# Altium footprint library gecko3-library.PcbLib: 40 footprints (part 3 of 3)
Each footprint in its own frame and in the unit in brackets; x right, y up, seen from the top. Pads: shape width x height; smd on the part's side, far side on the other; paste and mask are expansions set on the pad; w line width, h text height; cw(c..) or ccw(c..) is an arc to the next point about the centre after c.
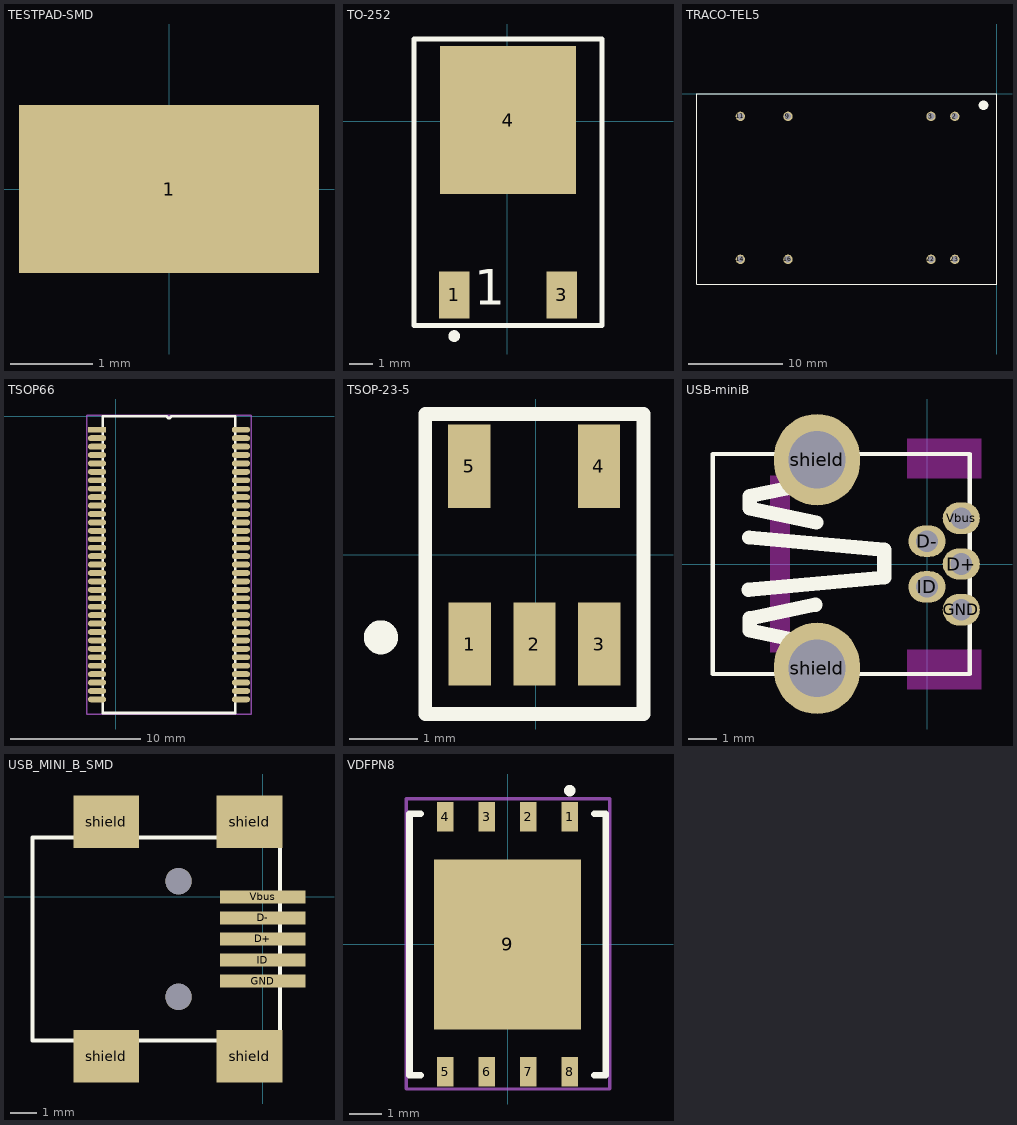
[diagram p2: the footprints below, top view; thin cyan lines are the x and y axes]

## TESTPAD-SMD [mm] "SMD Testpad"
height 2
pads (1):
  rect 3.65x2.05 smd: 1(0,0)

## TO-252 [mm]
height 2.3
pads (3):
  rect 1.3x2 smd: 1(-2.26,-7.4) 3(2.31,-7.4)
  rect 5.8x6.3 smd paste-0.5: 4(0.025,0.05)
Top Overlay:
  circle w0.25: c-2.265,-9.15 r0.125
  lines w0.2: -3.975,-8.7 4.025,-8.7 4.025,3.5 0,3.5 -3.975,3.5 -3.975,-8.7
  text "1" at -1.415,-7.825 h1.5

## TRACO-TEL5 [mm] "DC/DC Converter Serie TEL5 from Traco Power"
height 10.2
pads (8):
  round 1 hole 0.7 unplated: 2(-4.5,-2.4) 3(-7.04,-2.4) 9(-22.3,-2.4) 11(-27.375,-2.4) 14(-27.375,-17.65) 16(-22.3,-17.65) 22(-7.04,-17.65) 23(-4.5,-17.65)
Top Overlay:
  lines w0.1: -32,-20.3 -32,0 0,0 0,-20.3 -32,-20.3
  lines w1: -1.45,-1.225 -1.425,-1.225

## TSOP66 [mm]
pads (66):
  rect 1.4x0.45 smd mask+0.05: 1(-1.45,-1.05)
  oval 1.4x0.45 smd mask+0.05: 2(-1.45,-1.7) 3(-1.45,-2.35) 4(-1.45,-3) 5(-1.45,-3.65) 6(-1.45,-4.3) 7(-1.45,-4.95) 8(-1.45,-5.6) 9(-1.45,-6.25) 10(-1.45,-6.9) 11(-1.45,-7.55) 12(-1.45,-8.2) 13(-1.45,-8.85) 14(-1.45,-9.5) 15(-1.45,-10.15) 16(-1.45,-10.8) 17(-1.45,-11.45) 18(-1.45,-12.1) 19(-1.45,-12.75) 20(-1.45,-13.4) 21(-1.45,-14.05) 22(-1.45,-14.7) 23(-1.45,-15.35) 24(-1.45,-16) 25(-1.45,-16.65) 26(-1.45,-17.3) 27(-1.45,-17.95) 28(-1.45,-18.6) 29(-1.45,-19.25) 30(-1.45,-19.9) 31(-1.45,-20.55) 32(-1.45,-21.2) 33(-1.45,-21.85) 34(9.65,-21.85) 35(9.65,-21.2) 36(9.65,-20.55) 37(9.65,-19.9) 38(9.65,-19.25) 39(9.65,-18.6) 40(9.65,-17.95) 41(9.65,-17.3) 42(9.65,-16.65) 43(9.65,-16) 44(9.65,-15.35) 45(9.65,-14.7) 46(9.65,-14.05) 47(9.65,-13.4) 48(9.65,-12.75) 49(9.65,-12.1) 50(9.65,-11.45) 51(9.65,-10.8) 52(9.65,-10.15) 53(9.65,-9.5) 54(9.65,-8.85) 55(9.65,-8.2) 56(9.65,-7.55) 57(9.65,-6.9) 58(9.65,-6.25) 59(9.65,-5.6) 60(9.65,-4.95) 61(9.65,-4.3) 62(9.65,-3.65) 63(9.65,-3) 64(9.65,-2.35) 65(9.65,-1.7) 66(9.65,-1.05)
Top Overlay:
  lines w0.2: -1.015,-22.9 -1.015,0 3.938,0 ccw(c4.1,0) 4.262,0 9.225,0 9.225,-22.9 -1.015,-22.9
Mechanical 15:
  lines w0.1: -2.25,-22.975 -2.25,0.075 10.45,0.075 10.45,-22.975 -2.25,-22.975

## TSOP-23-5 [mm]
height 0.9
pads (5):
  rect 0.62x1.22 smd: 1(-0.971,-1.309) 2(-0.021,-1.309) 3(0.929,-1.309) 4(0.925,1.3) 5(-0.975,1.3)
Top Overlay:
  circle w0.25: c-2.271,-1.209 r0.125
  lines w0.2: -1.621,-2.334 -1.621,2.066 1.579,2.066 1.579,-2.334 -1.621,-2.334

## USB-miniB [mm] "Molex USB mini B Receptable THT"
height 3.95
pads (7):
  oval 1.3x1.1 hole 0.762: D+(1.2,0) D-(0,0.8) GND(1.2,-1.6) ID(0,-0.8) Vbus(1.2,1.6)
  oval 3x3.2 hole 2: shield(-3.85,-3.65) shield(-3.85,3.65)
Top Overlay:
  lines w0.15: -7.5,-3.85 1.5,-3.85 1.5,3.85 -7.5,3.85 -7.5,-3.85
  lines w0.5: -6.25,-0.9 -1.5,-0.475 -1.5,0.425 ; -6.225,0.925 -1.5,0.5 ; -3.9,-1.425 -6.2,-1.9 -6.2,-2.325 -3.875,-2.825 ; -3.9,2.85 -6.2,2.375 -6.2,1.95 -3.875,1.45
Keep-Out Layer:
  rectangle: -5.5,-3.1 -4.8,3.1
  rectangle: -0.7,3 1.9,4.4
  rectangle: -0.7,-4.4 1.9,-3

## USB_MINI_B_SMD [mm]
height 3.95
pads (11):
  rect 3.25x0.5 smd: D+(0,-1.6) D-(0,-0.8) GND(0,-3.2) ID(0,-2.4) Vbus(0,0)
  rect 2.5x2 smd: shield(-5.95,-6.05) shield(-5.95,2.85) shield(-0.5,-6.05) shield(-0.5,2.85)
  round 1 hole 1: ""(-3.2,-3.8) ""(-3.2,0.6)
Top Overlay:
  lines w0.152: -8.75,-5.45 0.65,-5.45 0.65,2.25 -8.75,2.25 -8.75,-5.45

## VDFPN8 [mm] "VDFPN8, 8-Leads, Very thin Dual Flat Package Body 8.0x6.0mm (max), Pitch 1.27mm, IPC Medium Density"
height 0.85
pads (9):
  rect 0.5x0.9 smd: 1(1.905,3.9) 2(0.635,3.9) 3(-0.635,3.9) 4(-1.905,3.9) 5(-1.905,-3.9) 6(-0.635,-3.9) 7(0.635,-3.9) 8(1.905,-3.9)
  rect 4.5x5.2 smd paste-0.8: 9(0,0)
Top Overlay:
  circle w0.25: c1.9,4.7 r0.05
  lines w0.2: -2.65,-4 -3,-4 -3,4 -2.65,4 ; 2.65,-4 3,-4 3,4 2.65,4
Mechanical 15:
  lines w0.1: -0.5,0 0.5,0 ; 0,-0.5 0,0.5 ; -3.1,-4.425 3.125,-4.425 3.125,4.45 -3.1,4.45 -3.1,-4.425